# EAGLE library part OSTYK-421 (library on-shore-technology)
Barrier Block, 0.325" pitch
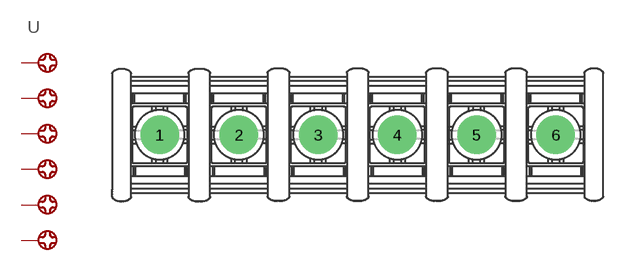
[diagram p0: symbol with the pads of OSTYK-421; footprint OSTYK-421]

Designator prefix -

## OSTYK-421  [OSTYK-421]
1  1  pas
2  2  pas
3  3  pas
4  4  pas
5  5  pas
6  6  pas

## Footprint OSTYK-421 (pad centres in mm)
Barrier Blocks Sreies 5202 Source: http://www.ebyelectro.com/PDF/5202-XX-N-02.pdf
drill 2 pad 4: 1 -20.625,0; 2 -12.375,0; 3 -4.125,0; 4 4.125,0; 5 12.375,0; 6 20.625,0